# Altium footprint library LTE-302.PcbLib: 1 footprints
Each footprint in its own frame and in the unit in brackets; x right, y up, seen from the top. Pads: shape width x height; smd on the part's side, far side on the other; paste and mask are expansions set on the pad; w line width, h text height; cw(c..) or ccw(c..) is an arc to the next point about the centre after c.
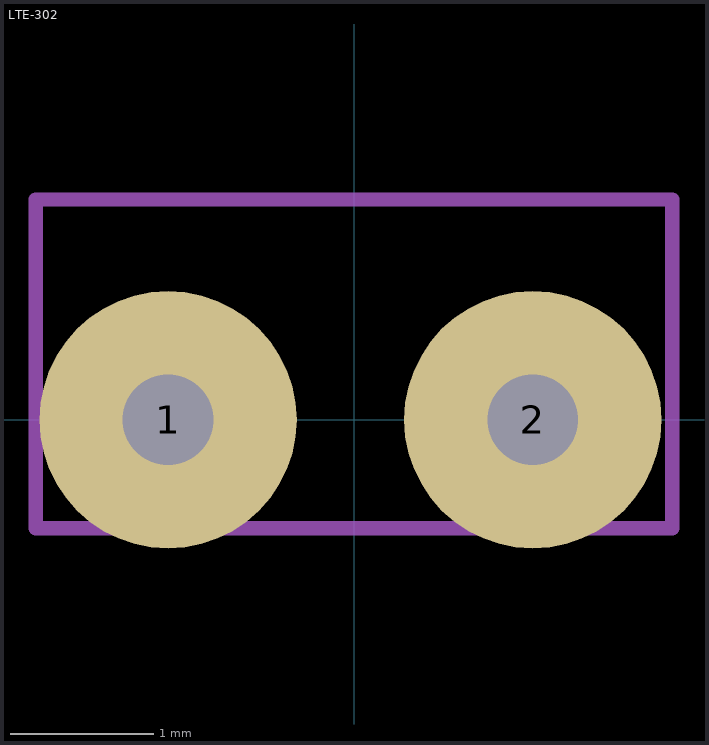
[diagram p0: the footprint, top view; thin cyan lines are the x and y axes]

## LTE-302 [mm]
height 0.9
pads (2):
  round 1.8 hole 0.635: 1(-1.3,0) 2(1.25,0)
Top Assembly:
  lines w0.1: -2.225,-0.759 -2.225,1.54 2.225,1.54 2.225,-0.759 -2.225,-0.759
  text "'.Designator'" at -0.762,-1.651 h0.7
3D body "opic sensor.x_t": height 8.36, standoff -1.36, extent -2.225,-0.759 2.225,1.548